# EAGLE library part DAC8734SPFB (library DAC8734)
Quad, 16-BIT DAC
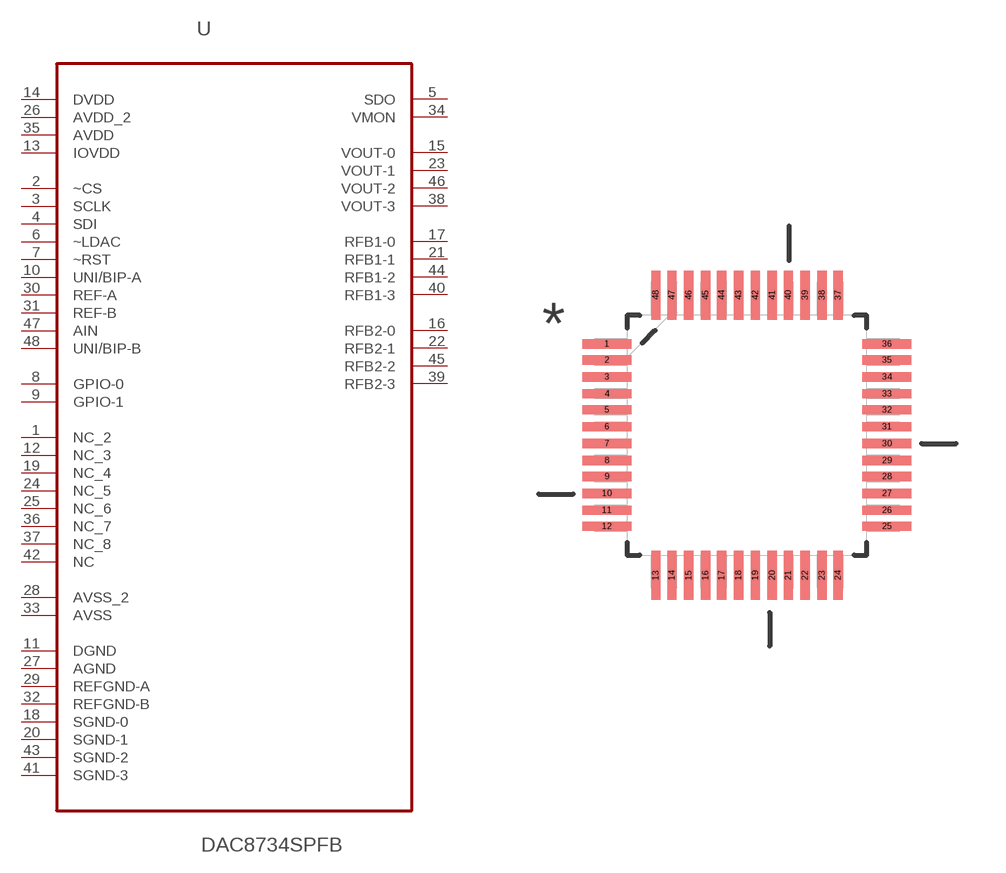
[diagram p0: symbol with the pads of QFP50P900X900X120-48N; footprint QFP50P900X900X120-48N]

Designator prefix U

## DAC8734SPFB (MPN: DAC8734SPFB; OC_FARNELL: 2082437; OC_NEWARK: 89T8681; PACKAGE: TQFP-48; SUPPLIER: Texas Instruments)  [QFP50P900X900X120-48N]
1  NC_2  nc
2  ~CS  in
3  SCLK  in
4  SDI  in
5  SDO  out
6  ~LDAC  in
7  ~RST  in
8  GPIO-0
9  GPIO-1
10  UNI/BIP-A  in
11  DGND  pas
12  NC_3  nc
13  IOVDD  pwr
14  DVDD  pwr
15  VOUT-0  out
16  RFB2-0  out
17  RFB1-0  out
18  SGND-0  pas
19  NC_4  nc
20  SGND-1  pas
21  RFB1-1  out
22  RFB2-1  out
23  VOUT-1  out
24  NC_5  nc
25  NC_6  nc
26  AVDD_2  pwr
27  AGND  pas
28  AVSS_2  pwr
29  REFGND-A  pas
30  REF-A  in
31  REF-B  in
32  REFGND-B  pas
33  AVSS  pwr
34  VMON  out
35  AVDD  pwr
36  NC_7  nc
37  NC_8  nc
38  VOUT-3  out
39  RFB2-3  out
40  RFB1-3  out
41  SGND-3  pas
42  NC  nc
43  SGND-2  pas
44  RFB1-2  out
45  RFB2-2  out
46  VOUT-2  out
47  AIN  in
48  UNI/BIP-B  in

## Footprint QFP50P900X900X120-48N (pad centres in mm)
smd 1.473 x 0.279: 1 -4.216,2.743; 2 -4.216,2.261; 3 -4.216,1.753; 4 -4.216,1.245; 5 -4.216,0.762; 6 -4.216,0.254; 7 -4.216,-0.254; 8 -4.216,-0.762; 9 -4.216,-1.245; 10 -4.216,-1.753; 11 -4.216,-2.261; 12 -4.216,-2.743; 25 4.216,-2.743; 26 4.216,-2.261; 27 4.216,-1.753; 28 4.216,-1.245; 29 4.216,-0.762; 30 4.216,-0.254; 31 4.216,0.254; 32 4.216,0.762; 33 4.216,1.245; 34 4.216,1.753; 35 4.216,2.261; 36 4.216,2.743
smd 0.279 x 1.473: 13 -2.743,-4.216; 14 -2.261,-4.216; 15 -1.753,-4.216; 16 -1.245,-4.216; 17 -0.762,-4.216; 18 -0.254,-4.216; 19 0.254,-4.216; 20 0.762,-4.216; 21 1.245,-4.216; 22 1.753,-4.216; 23 2.261,-4.216; 24 2.743,-4.216; 37 2.743,4.216; 38 2.261,4.216; 39 1.753,4.216; 40 1.245,4.216; 41 0.762,4.216; 42 0.254,4.216; 43 -0.254,4.216; 44 -0.762,4.216; 45 -1.245,4.216; 46 -1.753,4.216; 47 -2.261,4.216; 48 -2.743,4.216